# EAGLE library part TJA1055T (library Park-A)
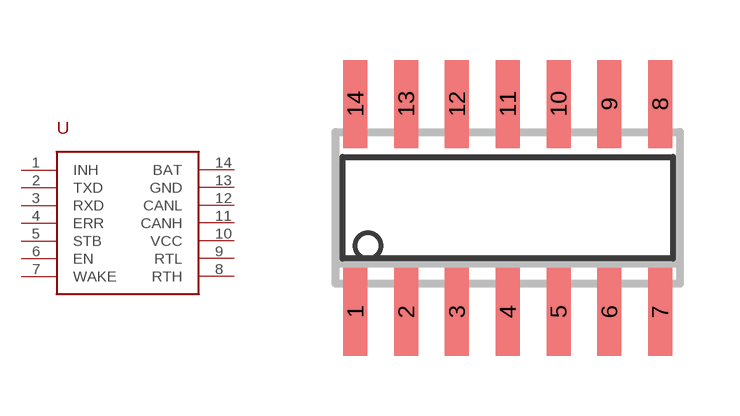
[diagram p1: symbol with the pads of SO-14W; footprint SO-14W]

Designator prefix -

## TJA1055T  [SO-14W]
1  INH  out
2  TXD
3  RXD
4  ERR  out
5  STB  in
6  EN  in
7  WAKE  in
8  RTH
9  RTL
10  VCC  pwr
11  CANH
12  CANL
13  GND  pwr
14  BAT  in

## Footprint SO-14W (pad centres in mm)
Small Outline Narrow Plastic Gull Wing 150-mil body, package type SL
smd 0.6 x 2.2: 1 -3.81,-2.6; 2 -2.54,-2.6; 3 -1.27,-2.6; 4 0,-2.6; 5 1.27,-2.6; 6 2.54,-2.6; 7 3.81,-2.6; 8 3.81,2.6; 9 2.54,2.6; 10 1.27,2.6; 11 0,2.6; 12 -1.27,2.6; 13 -2.54,2.6; 14 -3.81,2.6